# Altium schematic symbol library 691 253 800 0xx.SchLib: 2 symbols
Pins are listed as number, name and electrical type; pins without a type are passive.

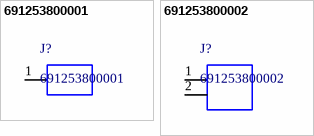
[diagram p0: symbols 691253800001 to 691253800002]

## 691253800001
designator J?
WR-TBL Vertical Cable Entry With Rising Cage Clamp,Serie 2538 - 10.00 mm; Manufacturer: Wurth Elektronik; ComponentLink1 Description: Manufacturer; ComponentLink2 Description: Datasheet; ComponentLink1URL: http://www.we-online.de; ComponentLink2URL: http://katalog.we-online.de/em/datasheet/6912538000xx.pdf; Created by: Baojun Chen; Created Date: 15.Sep.2015; partNo: 691253800001
footprint 691253800001 (Serie 2538 - 10.00 mm _ 1 pin)
pins: 1

## 691253800002
designator J?
WR-TBL Vertical Cable Entry With Rising Cage Clamp,Serie 2538 - 10.00 mm; Manufacturer: Wurth Elektronik; ComponentLink1 Description: Manufacturer; ComponentLink2 Description: Datasheet; ComponentLink1URL: http://www.we-online.de; ComponentLink2URL: http://katalog.we-online.de/em/datasheet/6912538000xx.pdf; Created by: Baojun Chen; Created Date: 15.Sep.2015; partNo: 691253800002
footprint 691253800002 (Serie 2538 - 10.00 mm _ 2 pins)
pins: 1, 2